# Altium footprint library RLC Footprints.PcbLib: 68 footprints (part 2 of 5)
Each footprint in its own frame and in the unit in brackets; x right, y up, seen from the top. Pads: shape width x height; smd on the part's side, far side on the other; paste and mask are expansions set on the pad; w line width, h text height; cw(c..) or ccw(c..) is an arc to the next point about the centre after c.
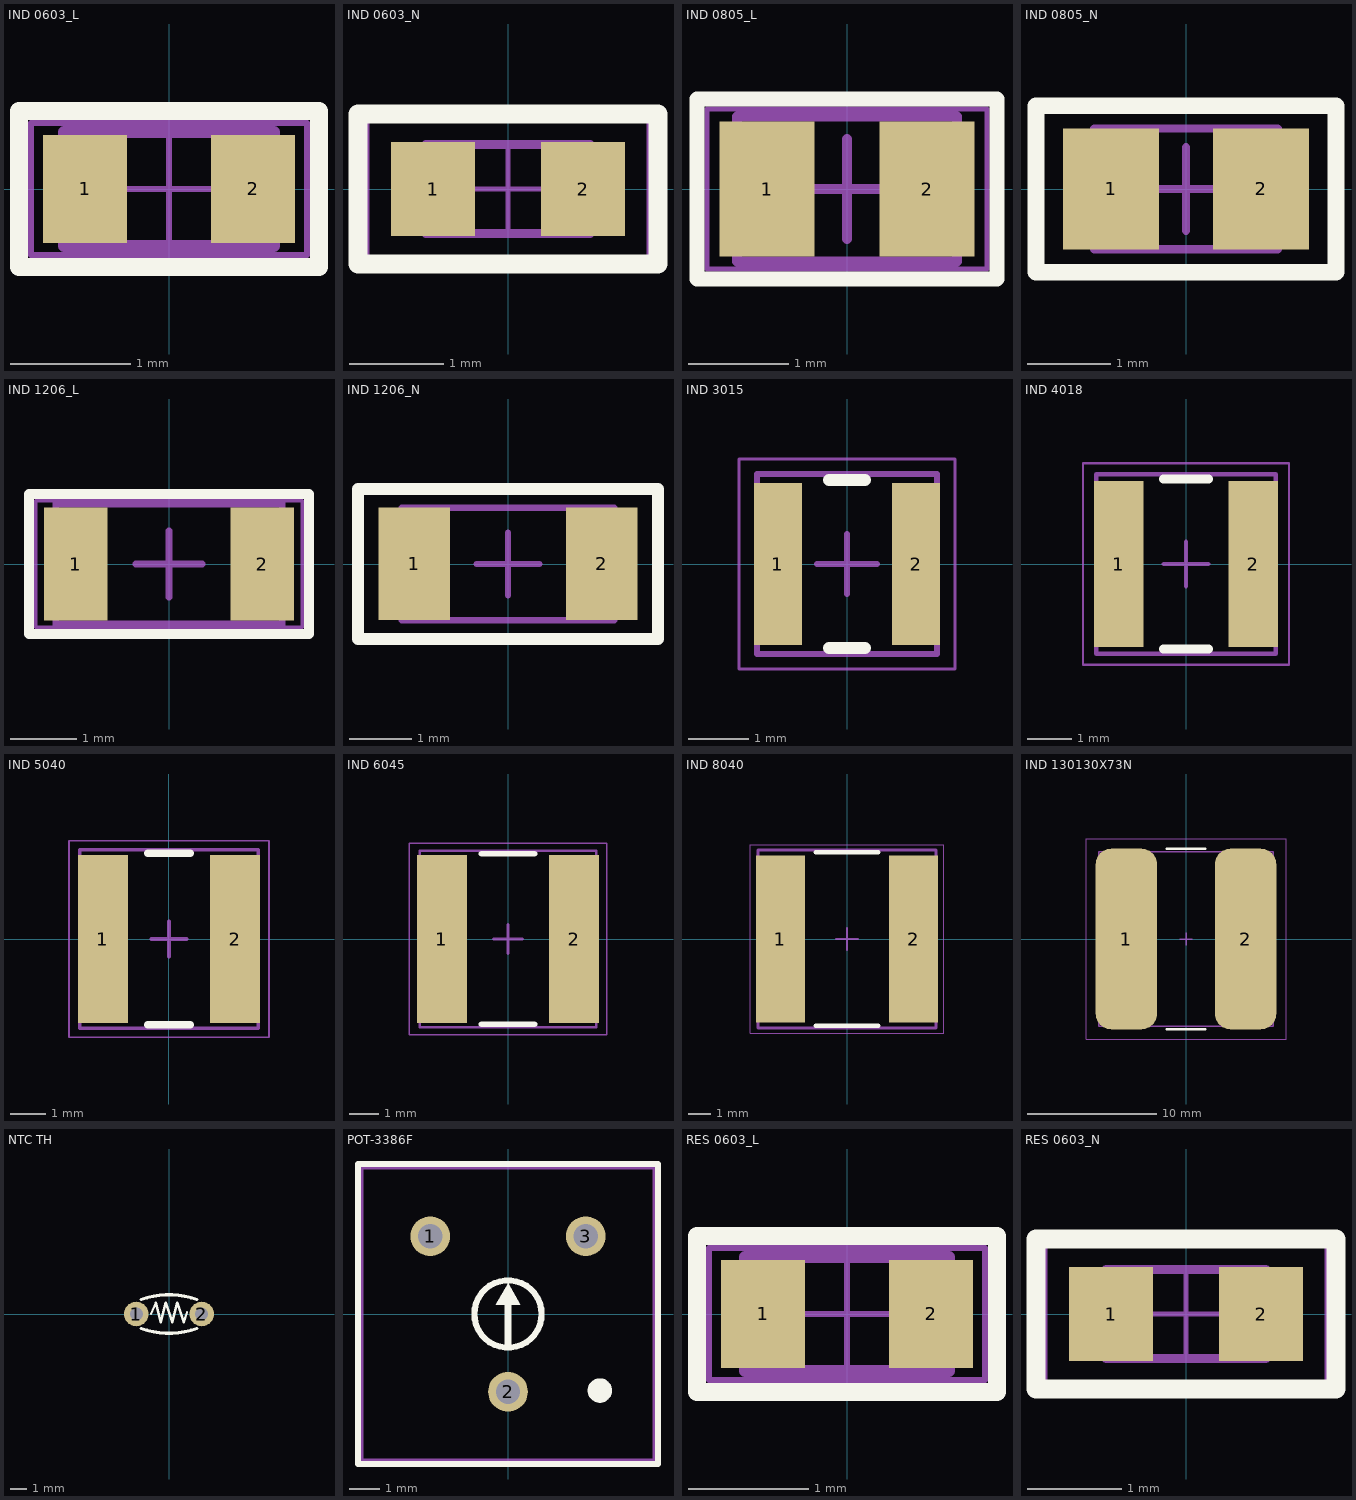
[diagram p1: the footprints below, top view; thin cyan lines are the x and y axes]

## IND 0603_L [mm] "Chip Inductor, Body 1.6x0.8mm, Height 0.55mm, IPC High Density"
height 0.55
pads (2):
  rect 0.7x0.9 smd: 1(-0.7,0) 2(0.7,0)
Top Overlay:
  lines w0.15: -1.25,-0.65 0.85,-0.65 1.25,-0.65 1.25,0.65 0.85,0.65 -1.25,0.65 -1.25,-0.65
Mechanical 13:
  lines w0.1: -0.875,-0.475 -0.875,0.475 0.875,0.475 0.875,-0.475 -0.875,-0.475
Mechanical 15:
  lines w0.05: -0.475,0 0.475,0 ; 0,-0.475 0,0.475 ; -1.15,-0.55 -1.15,0.55 1.15,0.55 1.15,-0.55 -1.15,-0.55
3D body: height 0.55, standoff 0, extent 0.525,-0.475 0.875,0.475
3D body: height 0.55, standoff 0, extent -0.875,-0.475 -0.525,0.475
3D body: height 0.55, standoff 0, extent -0.525,-0.475 0.525,0.475

## IND 0603_N [mm] "Chip Inductor, Body 1.6x0.8mm, Height 0.55mm, IPC Medium Density"
height 0.55
pads (2):
  rect 0.9x1 smd: 1(-0.8,0) 2(0.8,0)
Top Overlay:
  lines w0.2: -1.6,-0.8 1.1,-0.8 1.6,-0.8 1.6,0.8 1.1,0.8 -1.6,0.8 -1.6,-0.8
Mechanical 13:
  lines w0.1: -0.875,-0.475 0.875,-0.475 0.875,0.475 -0.875,0.475 -0.875,-0.475
Mechanical 15:
  lines w0.05: -0.475,0 0.475,0 ; 0,-0.475 0,0.475 ; -1.5,-0.75 1.5,-0.75 1.5,0.75 -1.5,0.75 -1.5,-0.75
3D body: height 0.55, standoff 0, extent 0.525,-0.475 0.875,0.475
3D body: height 0.55, standoff 0, extent -0.875,-0.475 -0.525,0.475
3D body: height 0.55, standoff 0, extent -0.525,-0.475 0.525,0.475

## IND 0805_L [mm] "Chip Inductor, Body 2.0x1.2mm, Height 0.75mm, IPC High Density"
height 0.75
pads (2):
  rect 0.95x1.35 smd: 1(-0.8,0) 2(0.8,0)
Top Overlay:
  lines w0.15: -1.5,-0.9 1.1,-0.9 1.5,-0.9 1.5,0.9 1.1,0.9 -1.5,0.9 -1.5,-0.9
Mechanical 13:
  lines w0.1: -1.1,-0.725 1.1,-0.725 1.1,0.725 -1.1,0.725 -1.1,-0.725
Mechanical 15:
  lines w0.05: -1.4,-0.8 1.4,-0.8 1.4,0.8 -1.4,0.8 -1.4,-0.8
  lines w0.1: -0.5,0 0.5,0 ; 0,-0.5 0,0.5
3D body: height 0.75, standoff 0, extent 0.6,-0.725 1.1,0.725
3D body: height 0.75, standoff 0, extent -1.1,-0.725 -0.6,0.725
3D body: height 0.75, standoff 0, extent -0.6,-0.725 0.6,0.725

## IND 0805_N [mm] "Chip Inductor, Body 2.0x1.2mm, Height 0.75mm, IPC Medium Density"
height 0.75
pads (2):
  rect 1.15x1.45 smd: 1(-0.9,0) 2(0.9,0)
Top Overlay:
  lines w0.2: -1.8,-1 -1.8,-0.9 -1.8,1 1.1,1 1.8,1 1.8,-1 1.1,-1 -1.8,-1
Mechanical 13:
  lines w0.1: -1.1,-0.725 1.1,-0.725 1.1,0.725 -1.1,0.725 -1.1,-0.725
Mechanical 15:
  lines w0.05: -1.75,-1 1.75,-1 1.75,1 -1.75,1 -1.75,-1
  lines w0.1: -0.5,0 0.5,0 ; 0,-0.5 0,0.5
3D body: height 0.75, standoff 0, extent 0.6,-0.725 1.1,0.725
3D body: height 0.75, standoff 0, extent -1.1,-0.725 -0.6,0.725
3D body: height 0.75, standoff 0, extent -0.6,-0.725 0.6,0.725

## IND 1206_L [mm] "Chip Inductor, Body 3.2x1.6mm, Height 0.75mm, IPC High Density"
height 0.75
pads (2):
  rect 0.95x1.7 smd: 1(-1.4,0) 2(1.4,0)
Top Overlay:
  lines w0.15: -2.1,-1.05 1.6,-1.05 2.1,-1.05 2.1,1.05 1.6,1.05 -2.1,1.05 -2.1,-1.05
Mechanical 13:
  lines w0.1: -1.7,-0.9 -1.7,0.9 1.7,0.9 1.7,-0.9 -1.7,-0.9
Mechanical 15:
  lines w0.05: -2,-0.95 -2,0.95 2,0.95 2,-0.95 -2,-0.95
  lines w0.1: -0.5,0 0.5,0 ; 0,-0.5 0,0.5
3D body: height 0.75, standoff 0, extent -1.2,-0.9 1.2,0.9
3D body: height 0.75, standoff 0, extent -1.7,-0.9 -1.2,0.9
3D body: height 0.75, standoff 0, extent 1.2,-0.9 1.7,0.9

## IND 1206_N [mm] "Chip Inductor, Body 3.2x1.6mm, Height 0.75mm, IPC Medium Density"
height 0.75
pads (2):
  rect 1.15x1.8 smd: 1(-1.5,0) 2(1.5,0)
Top Overlay:
  lines w0.2: -2.4,-1.2 1.6,-1.2 2.4,-1.2 2.4,1.2 1.6,1.2 -2.4,1.2 -2.4,-1.2
Mechanical 13:
  lines w0.1: -1.7,-0.9 -1.7,0.9 1.7,0.9 1.7,-0.9 -1.7,-0.9
Mechanical 15:
  lines w0.05: -2.35,-1.15 -2.35,1.15 2.35,1.15 2.35,-1.15 -2.35,-1.15
  lines w0.1: -0.5,0 0.5,0 ; 0,-0.5 0,0.5
3D body: height 0.75, standoff 0, extent -1.2,-0.9 1.2,0.9
3D body: height 0.75, standoff 0, extent -1.7,-0.9 -1.2,0.9
3D body: height 0.75, standoff 0, extent 1.2,-0.9 1.7,0.9

## IND 3015 [mm] "SMD Power Inductor, 2-Leads, Body 3.0x3.0mm"
height 1.5
pads (2):
  rect 0.8x2.7 smd: 1(-1.15,0) 2(1.15,0)
Top Overlay:
  lines w0.2: -0.3,-1.4 0.3,-1.4 ; -0.3,1.4 0.3,1.4
Mechanical 13:
  lines w0.1: -1.5,-1.5 1.5,-1.5 1.5,1.5 -1.5,1.5 -1.5,-1.5
Mechanical 15:
  lines w0.05: -1.8,-1.75 -1.8,1.75 1.8,1.75 1.8,-1.75 -1.8,-1.75
  lines w0.1: -0.5,0 0.5,0 ; 0,-0.5 0,0.5
3D body "LQS_3015.stp": height 1.48, standoff -0.02, extent -1.5,-1.5 1.5,1.5

## IND 4018 [mm] "SMD Power Inductor, 2-Leads, Body 4.0x4.0mm"
height 1.8
pads (2):
  rect 1.1x3.7 smd: 1(-1.5,0) 2(1.5,0)
Top Overlay:
  lines w0.2: -0.5,-1.9 0.5,-1.9 ; -0.5,1.9 0.5,1.9
Mechanical 13:
  lines w0.1: -2,-2 -2,2 2,2 2,-2 -2,-2
Mechanical 15:
  lines w0.05: -2.3,-2.25 -2.3,2.25 2.3,2.25 2.3,-2.25 -2.3,-2.25
  lines w0.1: -0.5,0 0.5,0 ; 0,-0.5 0,0.5
3D body "LQS_4018.stp": height 1.78, standoff -0.02, extent -2,-2 2,2

## IND 5040 [mm] "SMD Power Inductor, 2-Leads, Body 5.0x5.0mm"
height 4
pads (2):
  rect 1.4x4.7 smd: 1(-1.85,0) 2(1.85,0)
Top Overlay:
  lines w0.2: -0.6,-2.4 0.6,-2.4 ; -0.6,2.4 0.6,2.4
Mechanical 13:
  lines w0.1: -2.5,-2.5 -2.5,2.5 2.5,2.5 2.5,-2.5 -2.5,-2.5
Mechanical 15:
  lines w0.05: -2.8,-2.75 -2.8,2.75 2.8,2.75 2.8,-2.75 -2.8,-2.75
  lines w0.1: -0.5,0 0.5,0 ; 0,-0.5 0,0.5
3D body "LQS_5040.stp": height 3.99, standoff -0.01, extent -2.5,-2.5 2.5,2.5

## IND 6045 [mm] "SMD Power Inductor, 2-Leads, Body 6.0x6.0mm"
height 4.5
pads (2):
  rect 1.7x5.7 smd: 1(-2.25,0) 2(2.25,0)
Top Overlay:
  lines w0.2: -0.9,-2.9 0.9,-2.9 ; -0.9,2.9 0.9,2.9
Mechanical 13:
  lines w0.1: -3,-3 -3,3 3,3 3,-3 -3,-3
Mechanical 15:
  lines w0.05: -3.35,-3.25 -3.35,3.25 3.35,3.25 3.35,-3.25 -3.35,-3.25
  lines w0.1: -0.5,0 0.5,0 ; 0,-0.5 0,0.5
3D body "LQS_6045.stp": height 4.47, standoff -0.03, extent -3,-3 3,3

## IND 8040 [mm] "SMD Power Inductor, 2-Leads, Body 8.0x8.0mm"
height 4.2
pads (2):
  rect 2.2x7.5 smd: 1(-3,0) 2(3,0)
Top Overlay:
  lines w0.2: -1.4,-3.9 1.4,-3.9 ; -1.4,3.9 1.4,3.9
Mechanical 13:
  lines w0.127: -4,-4 4,-4 4,4 -4,4 -4,-4
Mechanical 15:
  lines w0.05: -4.35,-4.25 -4.35,4.25 4.35,4.25 4.35,-4.25 -4.35,-4.25
  lines w0.1: -0.5,0 0.5,0 ; 0,-0.5 0,0.5
3D body "LQS_8040.stp": height 4.16, standoff -0.04, extent -4,-4 4,4

## IND 130130X73N [mm] "SMD Wire Wound Inductor, 2-Leads, Body 13.00x13.00mm, IPC Medium Density"
height 7.3
pads (2):
  rrect50% 4.75x14 smd: 1(-4.625,0) 2(4.625,0)
Top Overlay:
  lines w0.2: -1.5,-7 1.5,-7 ; -1.5,7 1.5,7
Mechanical 13:
  lines w0.1: -6.75,-6.75 6.75,-6.75 6.75,6.75 -6.75,6.75 -6.75,-6.75
Mechanical 15:
  lines w0.05: -7.75,-7.75 7.75,-7.75 7.75,7.75 -7.75,7.75 -7.75,-7.75
  lines w0.1: -0.5,0 0.5,0 ; 0,-0.5 0,0.5
3D body "SDR1307.STP": height 7, standoff 0, extent -6.5,-6.5 6.5,6.5
3D body "SDR1307.STP": height 7, standoff 0, extent -6.5,-6.5 6.5,6.5

## NTC TH [mm] "Axial Through-Hole; Pin Spacing 4mm"
pads (2):
  round 1.5 hole 0.8: 1(-2,0) 2(2,0)
Top Overlay:
  lines w0.15: -1.1,0 -0.8,0.7 -0.5,-0.5 -0.2,0.7 0.2,-0.5 0.5,0.7 0.9,-0.5 1.1,0.1
  lines w0.2: -1.696,-0.888 ccw(c0,4) 1.696,-0.888 ; -1.696,0.888 cw(c0,-4) 1.696,0.888

## POT-3386F [mm] "Bourns 3386 Trimmer Pot - Style F"
pads (3):
  round 1.3 hole 0.8 paste+0: 1(-2.54,2.54) 2(0,-2.54) 3(2.54,2.54)
Top Overlay:
  circle w0.2: c0,0 r1.1
  circle w0.4: c3,-2.5 r0.2
  region: -0.3,0.3 -0.4,0.3 0,1 0.4,0.3 0.1,0.3
  region: -0.1,0.4 0.1,0.4 0.1,-1.05 -0.1,-1.05
  lines w0.2: -4.9,-4.9 4.9,-4.9 4.9,4.9 -4.9,4.9 -4.9,-4.9
Mechanical 13:
  lines w0.1: -4.765,-4.765 4.765,-4.765 4.765,4.765 -4.765,4.765 -4.765,-4.765
3D body "3386f001.stp": height 5, standoff -5.92, extent -4.811,-4.811 4.765,4.765

## RES 0603_L [mm] "Chip Resistor, Body 1.6x0.8mm, IPC High Density"
height 0.6
pads (2):
  rect 0.7x0.9 smd: 1(-0.7,0) 2(0.7,0)
Top Overlay:
  lines w0.15: -1.25,-0.65 0.8,-0.65 1.25,-0.65 1.25,0.65 0.8,0.65 -1.25,0.65 -1.25,-0.65
Mechanical 13:
  lines w0.1: -0.85,-0.475 -0.85,0.475 0.85,0.475 0.85,-0.475 -0.85,-0.475
Mechanical 15:
  lines w0.05: -0.475,0 0.475,0 ; 0,-0.475 0,0.475 ; -1.15,-0.55 -1.15,0.55 1.15,0.55 1.15,-0.55 -1.15,-0.55
3D body "SMD RESISTOR-0603.step": height 0.46, standoff 0, extent -0.8,-0.4 0.8,0.4

## RES 0603_N [mm] "Chip Resistor, Body 1.6x0.8mm, IPC Medium Density"
height 0.6
pads (2):
  rect 0.9x1 smd: 1(-0.8,0) 2(0.8,0)
Top Overlay:
  lines w0.2: -1.6,-0.8 -1.6,0.8 1.1,0.8 1.6,0.8 1.6,-0.8 1.1,-0.8 -1.6,-0.8
Mechanical 13:
  lines w0.1: -0.85,-0.475 0.85,-0.475 0.85,0.475 -0.85,0.475 -0.85,-0.475
Mechanical 15:
  lines w0.05: -0.475,0 0.475,0 ; 0,-0.475 0,0.475 ; -1.5,-0.75 1.5,-0.75 1.5,0.75 -1.5,0.75 -1.5,-0.75
3D body "SMD RESISTOR-0603.step": height 0.46, standoff 0, extent -0.8,-0.4 0.8,0.4